# Altium schematic symbol library MCP23S17-E_SP.SchLib: 1 symbol
Pins are listed as number, name and electrical type; pins without a type are passive.

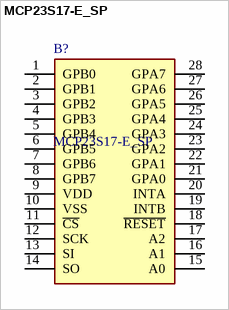
[diagram p0: symbol MCP23S17-E_SP]

## MCP23S17-E_SP
designator B?
Microchip MCP23S17-E/SO, 16-channel 16bit I/O Expander 5MHz, Serial-SPI, 28-Pin SOIC; Manufacturer_Part_Number: MCP23S17-E/SP; Geometry.Height: 5.08mm; Manufacturer_Name: Microchip; Mouser Part Number: 579-MCP23S17-E/SP; Mouser Price/Stock: https://www.mouser.co.uk/ProductDetail/Microchip-Technology/MCP23S17-E-SP?qs=usxtMOJb1RyzobAZrBjFZA%3D%3D; Arrow Part Number: MCP23S17-E/SP; Arrow Price/Stock: https://www.arrow.com/en/products/mcp23s17-esp/microchip-technology?utm_currency=USD&region=europe; Datasheet Link: https://datasheet.datasheetarchive.com/originals/distributors/SFDatasheet-4/sf-00090057.pdf
footprint DIP794W56P254L3486H508Q28N
pins: 1 GPB0, 2 GPB1, 3 GPB2, 4 GPB3, 5 GPB4, 6 GPB5, 7 GPB6, 8 GPB7, 9 VDD, 10 VSS, 11 ~{CS}, 12 SCK, 13 SI, 14 SO, 15 A0, 16 A1, 17 A2, 18 ~{RESET}, 19 INTB, 20 INTA, 21 GPA0, 22 GPA1, 23 GPA2, 24 GPA3, 25 GPA4, 26 GPA5, 27 GPA6, 28 GPA7